# Altium footprint library Resistors_GP.PcbLib: 194 footprints (part 12 of 13)
Each footprint in its own frame and in the unit in brackets; x right, y up, seen from the top. Pads: shape width x height; smd on the part's side, far side on the other; paste and mask are expansions set on the pad; w line width, h text height; cw(c..) or ccw(c..) is an arc to the next point about the centre after c.
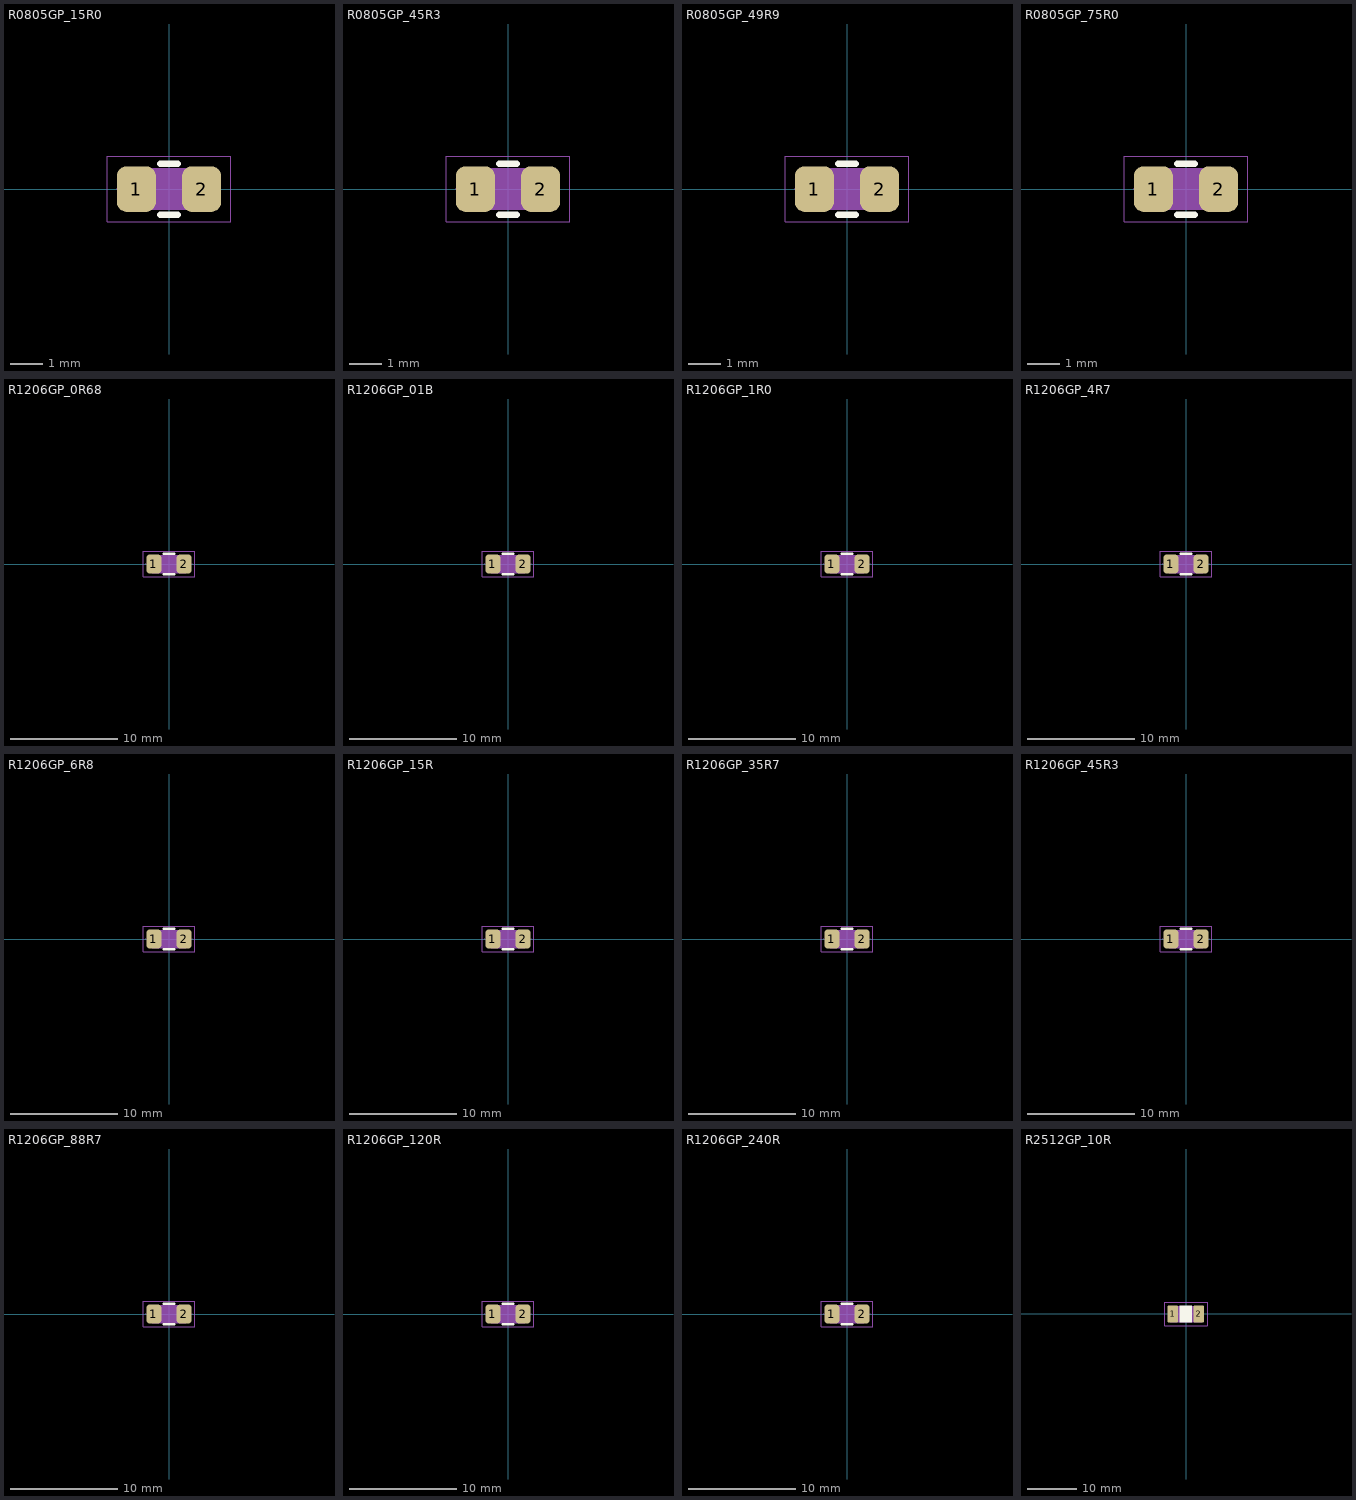
[diagram p11: the footprints below, top view; thin cyan lines are the x and y axes]

## R0805GP_15R0 [mm] "Resistor 0805"
height 0.45
pads (2):
  rrect50% 1.2x1.4 smd mask+0.05: 1(-1,-0.005) 2(1,-0.005)
Top Overlay:
  lines w0.2: -0.275,0.775 0.275,0.775 ; -0.275,-0.785 0.275,-0.785
Top Courtyard:
  lines w0.025: -1.9,-1 1.9,-1 1.9,1 -1.9,1 -1.9,-1
Top Assembly:
  lines w0.01: -1.59,-0.025 -1.59,0.025 ; 1.59,-0.025 1.59,0.025
  lines w0.05: -0.698,-0.62 0.698,-0.62 ; -0.698,0.62 0.698,0.62 ; -0.65,-0.62 -0.65,-0.46 ; -0.65,0.46 -0.65,0.62 ; -0.6,-0.62 -0.6,0.62 ; -0.55,-0.62 -0.55,0.62 ; -0.5,-0.62 -0.5,0.62 ; -0.45,-0.62 -0.45,0.62 ; -0.4,-0.62 -0.4,0.62 ; -0.35,-0.62 -0.35,0.62 ; -0.3,-0.62 -0.3,0.62 ; -0.25,-0.62 -0.25,0.62 ; -0.2,-0.62 -0.2,0.62 ; -0.15,-0.62 -0.15,0.62 ; -0.1,-0.62 -0.1,0.62 ; -0.05,-0.62 -0.05,0.62 ; 0,-0.62 0,0.62 ; 0.05,-0.62 0.05,0.62 ; 0.1,-0.62 0.1,0.62 ; 0.15,-0.62 0.15,0.62 ; 0.2,-0.62 0.2,0.62 ; 0.25,-0.62 0.25,0.62 ; 0.3,-0.62 0.3,0.62 ; 0.35,-0.62 0.35,0.62 ; 0.4,-0.62 0.4,0.62 ; 0.45,-0.62 0.45,0.62 ; 0.5,-0.62 0.5,0.62 ; 0.55,-0.62 0.55,0.62 ; 0.6,-0.62 0.6,0.62 ; 0.65,-0.62 0.65,-0.46 ; 0.65,0.46 0.65,0.62 ; -1,-0.625 -1,0.625 -0.7,0.625 cw(c-2.603,0) -0.7,-0.625 -1,-0.625 ; 0.7,-0.625 cw(c2.603,0) 0.7,0.625 1,0.625 1,-0.625 0.7,-0.625
  text ".Designator" at -1.801,0.819 h0.8
3D body "R0805_BLACK_15R0.x_t": height 0.45, standoff 0, extent -1,-0.625 1,0.625

## R0805GP_45R3 [mm] "Resistor 0805"
height 0.45
pads (2):
  rrect50% 1.2x1.4 smd mask+0.05: 1(-1,-0.005) 2(1,-0.005)
Top Overlay:
  lines w0.2: -0.275,0.775 0.275,0.775 ; -0.275,-0.785 0.275,-0.785
Top Courtyard:
  lines w0.025: -1.9,-1 -1.9,1 1.9,1 1.9,-1 -1.9,-1
Top Assembly:
  lines w0.01: -1.59,-0.025 -1.59,0.025 ; 1.59,-0.025 1.59,0.025
  lines w0.05: -0.698,-0.62 0.698,-0.62 ; -0.698,0.62 0.698,0.62 ; -0.65,-0.62 -0.65,-0.46 ; -0.65,0.46 -0.65,0.62 ; -0.6,-0.62 -0.6,0.62 ; -0.55,-0.62 -0.55,0.62 ; -0.5,-0.62 -0.5,0.62 ; -0.45,-0.62 -0.45,0.62 ; -0.4,-0.62 -0.4,0.62 ; -0.35,-0.62 -0.35,0.62 ; -0.3,-0.62 -0.3,0.62 ; -0.25,-0.62 -0.25,0.62 ; -0.2,-0.62 -0.2,0.62 ; -0.15,-0.62 -0.15,0.62 ; -0.1,-0.62 -0.1,0.62 ; -0.05,-0.62 -0.05,0.62 ; 0,-0.62 0,0.62 ; 0.05,-0.62 0.05,0.62 ; 0.1,-0.62 0.1,0.62 ; 0.15,-0.62 0.15,0.62 ; 0.2,-0.62 0.2,0.62 ; 0.25,-0.62 0.25,0.62 ; 0.3,-0.62 0.3,0.62 ; 0.35,-0.62 0.35,0.62 ; 0.4,-0.62 0.4,0.62 ; 0.45,-0.62 0.45,0.62 ; 0.5,-0.62 0.5,0.62 ; 0.55,-0.62 0.55,0.62 ; 0.6,-0.62 0.6,0.62 ; 0.65,-0.62 0.65,-0.46 ; 0.65,0.46 0.65,0.62 ; -1,-0.625 -1,0.625 -0.7,0.625 cw(c-2.603,0) -0.7,-0.625 -1,-0.625 ; 0.7,-0.625 cw(c2.603,0) 0.7,0.625 1,0.625 1,-0.625 0.7,-0.625
  text ".Designator" at -1.801,0.819 h0.8
3D body "R0805_BLACK_45R3.x_t": height 0.45, standoff 0, extent -1,-0.625 1,0.625

## R0805GP_49R9 [mm] "Resistor 0805"
height 0.45
pads (2):
  rrect50% 1.2x1.4 smd mask+0.05: 1(-1,-0.005) 2(1,-0.005)
Top Overlay:
  lines w0.2: -0.275,0.775 0.275,0.775 ; -0.275,-0.785 0.275,-0.785
Top Courtyard:
  lines w0.025: -1.9,-1 1.9,-1 1.9,1 -1.9,1 -1.9,-1
Top Assembly:
  lines w0.01: -1.59,-0.025 -1.59,0.025 ; 1.59,-0.025 1.59,0.025
  lines w0.05: -0.698,-0.62 0.698,-0.62 ; -0.698,0.62 0.698,0.62 ; -0.65,-0.62 -0.65,-0.46 ; -0.65,0.46 -0.65,0.62 ; -0.6,-0.62 -0.6,0.62 ; -0.55,-0.62 -0.55,0.62 ; -0.5,-0.62 -0.5,0.62 ; -0.45,-0.62 -0.45,0.62 ; -0.4,-0.62 -0.4,0.62 ; -0.35,-0.62 -0.35,0.62 ; -0.3,-0.62 -0.3,0.62 ; -0.25,-0.62 -0.25,0.62 ; -0.2,-0.62 -0.2,0.62 ; -0.15,-0.62 -0.15,0.62 ; -0.1,-0.62 -0.1,0.62 ; -0.05,-0.62 -0.05,0.62 ; 0,-0.62 0,0.62 ; 0.05,-0.62 0.05,0.62 ; 0.1,-0.62 0.1,0.62 ; 0.15,-0.62 0.15,0.62 ; 0.2,-0.62 0.2,0.62 ; 0.25,-0.62 0.25,0.62 ; 0.3,-0.62 0.3,0.62 ; 0.35,-0.62 0.35,0.62 ; 0.4,-0.62 0.4,0.62 ; 0.45,-0.62 0.45,0.62 ; 0.5,-0.62 0.5,0.62 ; 0.55,-0.62 0.55,0.62 ; 0.6,-0.62 0.6,0.62 ; 0.65,-0.62 0.65,-0.46 ; 0.65,0.46 0.65,0.62 ; -1,-0.625 -0.7,-0.625 ccw(c-2.603,0) -0.7,0.625 -1,0.625 -1,-0.625 ; 0.7,-0.625 cw(c2.603,0) 0.7,0.625 1,0.625 1,-0.625 0.7,-0.625
  text ".Designator" at -1.801,0.819 h0.8
3D body "R0805_BLACK_49R9.x_t": height 0.45, standoff 0, extent -1,-0.625 1,0.625

## R0805GP_75R0 [mm] "Resistor 0805"
height 0.45
pads (2):
  rrect50% 1.2x1.4 smd mask+0.05: 1(-1,-0.005) 2(1,-0.005)
Top Overlay:
  lines w0.2: -0.275,0.775 0.275,0.775 ; -0.275,-0.785 0.275,-0.785
Top Courtyard:
  lines w0.025: -1.9,-1 -1.9,1 1.9,1 1.9,-1 -1.9,-1
Top Assembly:
  lines w0.01: -1.59,-0.025 -1.59,0.025 ; 1.59,-0.025 1.59,0.025
  lines w0.05: -0.698,-0.62 0.698,-0.62 ; -0.698,0.62 0.698,0.62 ; -0.65,-0.62 -0.65,-0.46 ; -0.65,0.46 -0.65,0.62 ; -0.6,-0.62 -0.6,0.62 ; -0.55,-0.62 -0.55,0.62 ; -0.5,-0.62 -0.5,0.62 ; -0.45,-0.62 -0.45,0.62 ; -0.4,-0.62 -0.4,0.62 ; -0.35,-0.62 -0.35,0.62 ; -0.3,-0.62 -0.3,0.62 ; -0.25,-0.62 -0.25,0.62 ; -0.2,-0.62 -0.2,0.62 ; -0.15,-0.62 -0.15,0.62 ; -0.1,-0.62 -0.1,0.62 ; -0.05,-0.62 -0.05,0.62 ; 0,-0.62 0,0.62 ; 0.05,-0.62 0.05,0.62 ; 0.1,-0.62 0.1,0.62 ; 0.15,-0.62 0.15,0.62 ; 0.2,-0.62 0.2,0.62 ; 0.25,-0.62 0.25,0.62 ; 0.3,-0.62 0.3,0.62 ; 0.35,-0.62 0.35,0.62 ; 0.4,-0.62 0.4,0.62 ; 0.45,-0.62 0.45,0.62 ; 0.5,-0.62 0.5,0.62 ; 0.55,-0.62 0.55,0.62 ; 0.6,-0.62 0.6,0.62 ; 0.65,-0.62 0.65,-0.46 ; 0.65,0.46 0.65,0.62 ; -1,-0.625 -0.7,-0.625 ccw(c-2.603,0) -0.7,0.625 -1,0.625 -1,-0.625 ; 0.7,-0.625 cw(c2.603,0) 0.7,0.625 1,0.625 1,-0.625 0.7,-0.625
  text ".Designator" at -1.801,0.819 h0.8
3D body "R0805_BLACK_75R0.x_t": height 0.45, standoff 0, extent -1,-0.625 1,0.625

## R1206GP_0R68 [mm] "Resistor 1206"
height 0.55
pads (2):
  rrect50% 1.4x1.8 smd mask+0.05: 1(-1.4,0) 2(1.4,0)
Top Overlay:
  lines w0.2: -0.5,-0.95 0.5,-0.95 ; -0.5,0.95 0.5,0.95
Top Courtyard:
  lines w0.025: -2.4,-1.2 2.4,-1.2 2.4,1.2 -2.4,1.2 -2.4,-1.2
Top Assembly:
  lines w0.01: -2.14,-0.025 -2.14,0.025 ; 2.14,-0.025 2.14,0.025
  lines w0.05: -1.149,-0.795 1.149,-0.795 ; -1.149,0.795 1.149,0.795 ; -1.143,-0.745 1.143,-0.745 ; -1.143,0.745 1.143,0.745 ; -1.1,-0.745 -1.1,-0.045 ; -1.1,0.045 -1.1,0.745 ; -1.05,-0.745 -1.05,0.745 ; -1,-0.745 -1,0.745 ; -0.95,-0.745 -0.95,0.745 ; -0.9,-0.745 -0.9,0.745 ; -0.85,-0.745 -0.85,0.745 ; -0.8,-0.745 -0.8,0.745 ; -0.75,-0.745 -0.75,0.745 ; -0.7,-0.745 -0.7,0.745 ; -0.65,-0.745 -0.65,0.745 ; -0.6,-0.745 -0.6,0.745 ; -0.55,-0.745 -0.55,0.745 ; -0.5,-0.745 -0.5,0.745 ; -0.45,-0.745 -0.45,0.745 ; -0.4,-0.745 -0.4,0.745 ; -0.35,-0.745 -0.35,0.745 ; -0.3,-0.745 -0.3,0.745 ; -0.25,-0.745 -0.25,0.745 ; -0.2,-0.745 -0.2,0.745 ; -0.15,-0.745 -0.15,0.745 ; -0.1,-0.745 -0.1,0.745 ; -0.05,-0.745 -0.05,0.745 ; 0,-0.745 0,0.745 ; 0.05,-0.745 0.05,0.745 ; 0.1,-0.745 0.1,0.745 ; 0.15,-0.745 0.15,0.745 ; 0.2,-0.745 0.2,0.745 ; 0.25,-0.745 0.25,0.745 ; 0.3,-0.745 0.3,0.745 ; 0.35,-0.745 0.35,0.745 ; 0.4,-0.745 0.4,0.745 ; 0.45,-0.745 0.45,0.745 ; 0.5,-0.745 0.5,0.745 ; 0.55,-0.745 0.55,0.745 ; 0.6,-0.745 0.6,0.745 ; 0.65,-0.745 0.65,0.745 ; 0.7,-0.745 0.7,0.745 ; 0.75,-0.745 0.75,0.745 ; 0.8,-0.745 0.8,0.745 ; 0.85,-0.745 0.85,0.745 ; 0.9,-0.745 0.9,0.745 ; 0.95,-0.745 0.95,0.745 ; 1,-0.745 1,0.745 ; 1.05,-0.745 1.05,0.745 ; 1.1,-0.745 1.1,-0.045 ; 1.1,0.045 1.1,0.745 ; -1.55,-0.8 -1.55,0.8 -1.15,0.8 cw(c-7.525,0) -1.15,-0.8 -1.55,-0.8 ; 1.15,-0.8 cw(c7.525,0) 1.15,0.8 1.55,0.8 1.55,-0.8 1.15,-0.8
  text ".Designator" at -2.252,1.524 h1
3D body "R1206_BLACK_0R68.x_t": height 0.55, standoff 0, extent -1.55,-0.8 1.55,0.8

## R1206GP_01B [mm] "Resistor 1206"
height 0.55
pads (2):
  rrect50% 1.4x1.8 smd mask+0.05: 1(-1.4,0) 2(1.4,0)
Top Overlay:
  lines w0.2: -0.5,-0.95 0.5,-0.95 ; -0.5,0.95 0.5,0.95
Top Courtyard:
  lines w0.025: -2.4,-1.2 -2.4,1.2 2.4,1.2 2.4,-1.2 -2.4,-1.2
Top Assembly:
  lines w0.01: -2.14,-0.025 -2.14,0.025 ; 2.14,-0.025 2.14,0.025
  lines w0.05: -1.149,-0.795 1.149,-0.795 ; -1.149,0.795 1.149,0.795 ; -1.143,-0.745 1.143,-0.745 ; -1.143,0.745 1.143,0.745 ; -1.1,-0.745 -1.1,-0.045 ; -1.1,0.045 -1.1,0.745 ; -1.05,-0.745 -1.05,0.745 ; -1,-0.745 -1,0.745 ; -0.95,-0.745 -0.95,0.745 ; -0.9,-0.745 -0.9,0.745 ; -0.85,-0.745 -0.85,0.745 ; -0.8,-0.745 -0.8,0.745 ; -0.75,-0.745 -0.75,0.745 ; -0.7,-0.745 -0.7,0.745 ; -0.65,-0.745 -0.65,0.745 ; -0.6,-0.745 -0.6,0.745 ; -0.55,-0.745 -0.55,0.745 ; -0.5,-0.745 -0.5,0.745 ; -0.45,-0.745 -0.45,0.745 ; -0.4,-0.745 -0.4,0.745 ; -0.35,-0.745 -0.35,0.745 ; -0.3,-0.745 -0.3,0.745 ; -0.25,-0.745 -0.25,0.745 ; -0.2,-0.745 -0.2,0.745 ; -0.15,-0.745 -0.15,0.745 ; -0.1,-0.745 -0.1,0.745 ; -0.05,-0.745 -0.05,0.745 ; 0,-0.745 0,0.745 ; 0.05,-0.745 0.05,0.745 ; 0.1,-0.745 0.1,0.745 ; 0.15,-0.745 0.15,0.745 ; 0.2,-0.745 0.2,0.745 ; 0.25,-0.745 0.25,0.745 ; 0.3,-0.745 0.3,0.745 ; 0.35,-0.745 0.35,0.745 ; 0.4,-0.745 0.4,0.745 ; 0.45,-0.745 0.45,0.745 ; 0.5,-0.745 0.5,0.745 ; 0.55,-0.745 0.55,0.745 ; 0.6,-0.745 0.6,0.745 ; 0.65,-0.745 0.65,0.745 ; 0.7,-0.745 0.7,0.745 ; 0.75,-0.745 0.75,0.745 ; 0.8,-0.745 0.8,0.745 ; 0.85,-0.745 0.85,0.745 ; 0.9,-0.745 0.9,0.745 ; 0.95,-0.745 0.95,0.745 ; 1,-0.745 1,0.745 ; 1.05,-0.745 1.05,0.745 ; 1.1,-0.745 1.1,-0.045 ; 1.1,0.045 1.1,0.745 ; -1.55,-0.8 -1.15,-0.8 ccw(c-7.525,0) -1.15,0.8 -1.55,0.8 -1.55,-0.8 ; 1.15,-0.8 cw(c7.525,0) 1.15,0.8 1.55,0.8 1.55,-0.8 1.15,-0.8
  text ".Designator" at -2.252,1.524 h1
3D body "R1206_BLACK_01B.x_t": height 0.55, standoff 0, extent -1.55,-0.8 1.55,0.8

## R1206GP_1R0 [mm] "Resistor 1206"
height 0.55
pads (2):
  rrect50% 1.4x1.8 smd mask+0.05: 1(-1.4,0) 2(1.4,0)
Top Overlay:
  lines w0.2: -0.5,-0.95 0.5,-0.95 ; -0.5,0.95 0.5,0.95
Top Courtyard:
  lines w0.025: -2.4,-1.2 2.4,-1.2 2.4,1.2 -2.4,1.2 -2.4,-1.2
Top Assembly:
  lines w0.01: -2.14,-0.025 -2.14,0.025 ; 2.14,-0.025 2.14,0.025
  lines w0.05: -1.149,-0.795 1.149,-0.795 ; -1.149,0.795 1.149,0.795 ; -1.143,-0.745 1.143,-0.745 ; -1.143,0.745 1.143,0.745 ; -1.1,-0.745 -1.1,-0.045 ; -1.1,0.045 -1.1,0.745 ; -1.05,-0.745 -1.05,0.745 ; -1,-0.745 -1,0.745 ; -0.95,-0.745 -0.95,0.745 ; -0.9,-0.745 -0.9,0.745 ; -0.85,-0.745 -0.85,0.745 ; -0.8,-0.745 -0.8,0.745 ; -0.75,-0.745 -0.75,0.745 ; -0.7,-0.745 -0.7,0.745 ; -0.65,-0.745 -0.65,0.745 ; -0.6,-0.745 -0.6,0.745 ; -0.55,-0.745 -0.55,0.745 ; -0.5,-0.745 -0.5,0.745 ; -0.45,-0.745 -0.45,0.745 ; -0.4,-0.745 -0.4,0.745 ; -0.35,-0.745 -0.35,0.745 ; -0.3,-0.745 -0.3,0.745 ; -0.25,-0.745 -0.25,0.745 ; -0.2,-0.745 -0.2,0.745 ; -0.15,-0.745 -0.15,0.745 ; -0.1,-0.745 -0.1,0.745 ; -0.05,-0.745 -0.05,0.745 ; 0,-0.745 0,0.745 ; 0.05,-0.745 0.05,0.745 ; 0.1,-0.745 0.1,0.745 ; 0.15,-0.745 0.15,0.745 ; 0.2,-0.745 0.2,0.745 ; 0.25,-0.745 0.25,0.745 ; 0.3,-0.745 0.3,0.745 ; 0.35,-0.745 0.35,0.745 ; 0.4,-0.745 0.4,0.745 ; 0.45,-0.745 0.45,0.745 ; 0.5,-0.745 0.5,0.745 ; 0.55,-0.745 0.55,0.745 ; 0.6,-0.745 0.6,0.745 ; 0.65,-0.745 0.65,0.745 ; 0.7,-0.745 0.7,0.745 ; 0.75,-0.745 0.75,0.745 ; 0.8,-0.745 0.8,0.745 ; 0.85,-0.745 0.85,0.745 ; 0.9,-0.745 0.9,0.745 ; 0.95,-0.745 0.95,0.745 ; 1,-0.745 1,0.745 ; 1.05,-0.745 1.05,0.745 ; 1.1,-0.745 1.1,-0.045 ; 1.1,0.045 1.1,0.745 ; -1.55,-0.8 -1.55,0.8 -1.15,0.8 cw(c-7.525,0) -1.15,-0.8 -1.55,-0.8 ; 1.15,-0.8 cw(c7.525,0) 1.15,0.8 1.55,0.8 1.55,-0.8 1.15,-0.8
  text ".Designator" at -2.252,1.524 h1
3D body "R1206_BLACK_1R0.x_t": height 0.55, standoff 0, extent -1.55,-0.8 1.55,0.8

## R1206GP_4R7 [mm] "Resistor 1206"
height 0.55
pads (2):
  rrect50% 1.4x1.8 smd mask+0.05: 1(-1.4,0) 2(1.4,0)
Top Overlay:
  lines w0.2: -0.5,-0.95 0.5,-0.95 ; -0.5,0.95 0.5,0.95
Top Courtyard:
  lines w0.025: -2.4,-1.2 2.4,-1.2 2.4,1.2 -2.4,1.2 -2.4,-1.2
Top Assembly:
  lines w0.01: -2.14,-0.025 -2.14,0.025 ; 2.14,-0.025 2.14,0.025
  lines w0.05: -1.149,-0.795 1.149,-0.795 ; -1.149,0.795 1.149,0.795 ; -1.143,-0.745 1.143,-0.745 ; -1.143,0.745 1.143,0.745 ; -1.1,-0.745 -1.1,-0.045 ; -1.1,0.045 -1.1,0.745 ; -1.05,-0.745 -1.05,0.745 ; -1,-0.745 -1,0.745 ; -0.95,-0.745 -0.95,0.745 ; -0.9,-0.745 -0.9,0.745 ; -0.85,-0.745 -0.85,0.745 ; -0.8,-0.745 -0.8,0.745 ; -0.75,-0.745 -0.75,0.745 ; -0.7,-0.745 -0.7,0.745 ; -0.65,-0.745 -0.65,0.745 ; -0.6,-0.745 -0.6,0.745 ; -0.55,-0.745 -0.55,0.745 ; -0.5,-0.745 -0.5,0.745 ; -0.45,-0.745 -0.45,0.745 ; -0.4,-0.745 -0.4,0.745 ; -0.35,-0.745 -0.35,0.745 ; -0.3,-0.745 -0.3,0.745 ; -0.25,-0.745 -0.25,0.745 ; -0.2,-0.745 -0.2,0.745 ; -0.15,-0.745 -0.15,0.745 ; -0.1,-0.745 -0.1,0.745 ; -0.05,-0.745 -0.05,0.745 ; 0,-0.745 0,0.745 ; 0.05,-0.745 0.05,0.745 ; 0.1,-0.745 0.1,0.745 ; 0.15,-0.745 0.15,0.745 ; 0.2,-0.745 0.2,0.745 ; 0.25,-0.745 0.25,0.745 ; 0.3,-0.745 0.3,0.745 ; 0.35,-0.745 0.35,0.745 ; 0.4,-0.745 0.4,0.745 ; 0.45,-0.745 0.45,0.745 ; 0.5,-0.745 0.5,0.745 ; 0.55,-0.745 0.55,0.745 ; 0.6,-0.745 0.6,0.745 ; 0.65,-0.745 0.65,0.745 ; 0.7,-0.745 0.7,0.745 ; 0.75,-0.745 0.75,0.745 ; 0.8,-0.745 0.8,0.745 ; 0.85,-0.745 0.85,0.745 ; 0.9,-0.745 0.9,0.745 ; 0.95,-0.745 0.95,0.745 ; 1,-0.745 1,0.745 ; 1.05,-0.745 1.05,0.745 ; 1.1,-0.745 1.1,-0.045 ; 1.1,0.045 1.1,0.745 ; -1.55,-0.8 -1.55,0.8 -1.15,0.8 cw(c-7.525,0) -1.15,-0.8 -1.55,-0.8 ; 1.15,-0.8 cw(c7.525,0) 1.15,0.8 1.55,0.8 1.55,-0.8 1.15,-0.8
  text ".Designator" at -2.252,1.524 h1
3D body "R1206_BLACK_4R7.x_t": height 0.55, standoff 0, extent -1.55,-0.8 1.55,0.8

## R1206GP_6R8 [mm] "Resistor 1206"
height 0.55
pads (2):
  rrect50% 1.4x1.8 smd mask+0.05: 1(-1.4,0) 2(1.4,0)
Top Overlay:
  lines w0.2: -0.5,-0.95 0.5,-0.95 ; -0.5,0.95 0.5,0.95
Top Courtyard:
  lines w0.025: -2.4,-1.2 -2.4,1.2 2.4,1.2 2.4,-1.2 -2.4,-1.2
Top Assembly:
  lines w0.01: -2.14,-0.025 -2.14,0.025 ; 2.14,-0.025 2.14,0.025
  lines w0.05: -1.149,-0.795 1.149,-0.795 ; -1.149,0.795 1.149,0.795 ; -1.143,-0.745 1.143,-0.745 ; -1.143,0.745 1.143,0.745 ; -1.1,-0.745 -1.1,-0.045 ; -1.1,0.045 -1.1,0.745 ; -1.05,-0.745 -1.05,0.745 ; -1,-0.745 -1,0.745 ; -0.95,-0.745 -0.95,0.745 ; -0.9,-0.745 -0.9,0.745 ; -0.85,-0.745 -0.85,0.745 ; -0.8,-0.745 -0.8,0.745 ; -0.75,-0.745 -0.75,0.745 ; -0.7,-0.745 -0.7,0.745 ; -0.65,-0.745 -0.65,0.745 ; -0.6,-0.745 -0.6,0.745 ; -0.55,-0.745 -0.55,0.745 ; -0.5,-0.745 -0.5,0.745 ; -0.45,-0.745 -0.45,0.745 ; -0.4,-0.745 -0.4,0.745 ; -0.35,-0.745 -0.35,0.745 ; -0.3,-0.745 -0.3,0.745 ; -0.25,-0.745 -0.25,0.745 ; -0.2,-0.745 -0.2,0.745 ; -0.15,-0.745 -0.15,0.745 ; -0.1,-0.745 -0.1,0.745 ; -0.05,-0.745 -0.05,0.745 ; 0,-0.745 0,0.745 ; 0.05,-0.745 0.05,0.745 ; 0.1,-0.745 0.1,0.745 ; 0.15,-0.745 0.15,0.745 ; 0.2,-0.745 0.2,0.745 ; 0.25,-0.745 0.25,0.745 ; 0.3,-0.745 0.3,0.745 ; 0.35,-0.745 0.35,0.745 ; 0.4,-0.745 0.4,0.745 ; 0.45,-0.745 0.45,0.745 ; 0.5,-0.745 0.5,0.745 ; 0.55,-0.745 0.55,0.745 ; 0.6,-0.745 0.6,0.745 ; 0.65,-0.745 0.65,0.745 ; 0.7,-0.745 0.7,0.745 ; 0.75,-0.745 0.75,0.745 ; 0.8,-0.745 0.8,0.745 ; 0.85,-0.745 0.85,0.745 ; 0.9,-0.745 0.9,0.745 ; 0.95,-0.745 0.95,0.745 ; 1,-0.745 1,0.745 ; 1.05,-0.745 1.05,0.745 ; 1.1,-0.745 1.1,-0.045 ; 1.1,0.045 1.1,0.745 ; -1.55,-0.8 -1.15,-0.8 ccw(c-7.525,0) -1.15,0.8 -1.55,0.8 -1.55,-0.8 ; 1.15,-0.8 cw(c7.525,0) 1.15,0.8 1.55,0.8 1.55,-0.8 1.15,-0.8
  text ".Designator" at -2.252,1.524 h1
3D body "R1206_BLACK_6R8.x_t": height 0.55, standoff 0, extent -1.55,-0.8 1.55,0.8

## R1206GP_15R [mm] "Resistor 1206"
height 0.55
pads (2):
  rrect50% 1.4x1.8 smd mask+0.05: 1(-1.4,0) 2(1.4,0)
Top Overlay:
  lines w0.2: -0.5,-0.95 0.5,-0.95 ; -0.5,0.95 0.5,0.95
Top Courtyard:
  lines w0.025: -2.4,-1.2 -2.4,1.2 2.4,1.2 2.4,-1.2 -2.4,-1.2
Top Assembly:
  lines w0.01: -2.14,-0.025 -2.14,0.025 ; 2.14,-0.025 2.14,0.025
  lines w0.05: -1.149,-0.795 1.149,-0.795 ; -1.149,0.795 1.149,0.795 ; -1.143,-0.745 1.143,-0.745 ; -1.143,0.745 1.143,0.745 ; -1.1,-0.745 -1.1,-0.045 ; -1.1,0.045 -1.1,0.745 ; -1.05,-0.745 -1.05,0.745 ; -1,-0.745 -1,0.745 ; -0.95,-0.745 -0.95,0.745 ; -0.9,-0.745 -0.9,0.745 ; -0.85,-0.745 -0.85,0.745 ; -0.8,-0.745 -0.8,0.745 ; -0.75,-0.745 -0.75,0.745 ; -0.7,-0.745 -0.7,0.745 ; -0.65,-0.745 -0.65,0.745 ; -0.6,-0.745 -0.6,0.745 ; -0.55,-0.745 -0.55,0.745 ; -0.5,-0.745 -0.5,0.745 ; -0.45,-0.745 -0.45,0.745 ; -0.4,-0.745 -0.4,0.745 ; -0.35,-0.745 -0.35,0.745 ; -0.3,-0.745 -0.3,0.745 ; -0.25,-0.745 -0.25,0.745 ; -0.2,-0.745 -0.2,0.745 ; -0.15,-0.745 -0.15,0.745 ; -0.1,-0.745 -0.1,0.745 ; -0.05,-0.745 -0.05,0.745 ; 0,-0.745 0,0.745 ; 0.05,-0.745 0.05,0.745 ; 0.1,-0.745 0.1,0.745 ; 0.15,-0.745 0.15,0.745 ; 0.2,-0.745 0.2,0.745 ; 0.25,-0.745 0.25,0.745 ; 0.3,-0.745 0.3,0.745 ; 0.35,-0.745 0.35,0.745 ; 0.4,-0.745 0.4,0.745 ; 0.45,-0.745 0.45,0.745 ; 0.5,-0.745 0.5,0.745 ; 0.55,-0.745 0.55,0.745 ; 0.6,-0.745 0.6,0.745 ; 0.65,-0.745 0.65,0.745 ; 0.7,-0.745 0.7,0.745 ; 0.75,-0.745 0.75,0.745 ; 0.8,-0.745 0.8,0.745 ; 0.85,-0.745 0.85,0.745 ; 0.9,-0.745 0.9,0.745 ; 0.95,-0.745 0.95,0.745 ; 1,-0.745 1,0.745 ; 1.05,-0.745 1.05,0.745 ; 1.1,-0.745 1.1,-0.045 ; 1.1,0.045 1.1,0.745 ; -1.55,-0.8 -1.15,-0.8 ccw(c-7.525,0) -1.15,0.8 -1.55,0.8 -1.55,-0.8 ; 1.15,-0.8 cw(c7.525,0) 1.15,0.8 1.55,0.8 1.55,-0.8 1.15,-0.8
  text ".Designator" at -2.252,1.524 h1
3D body "R1206_BLACK_15R.x_t": height 0.55, standoff 0, extent -1.55,-0.8 1.55,0.8

## R1206GP_35R7 [mm] "Resistor 1206"
height 0.55
pads (2):
  rrect50% 1.4x1.8 smd mask+0.05: 1(-1.4,0) 2(1.4,0)
Top Overlay:
  lines w0.2: -0.5,-0.95 0.5,-0.95 ; -0.5,0.95 0.5,0.95
Top Courtyard:
  lines w0.025: -2.4,-1.2 -2.4,1.2 2.4,1.2 2.4,-1.2 -2.4,-1.2
Top Assembly:
  lines w0.01: -2.14,-0.025 -2.14,0.025 ; 2.14,-0.025 2.14,0.025
  lines w0.05: -1.149,-0.795 1.149,-0.795 ; -1.149,0.795 1.149,0.795 ; -1.143,-0.745 1.143,-0.745 ; -1.143,0.745 1.143,0.745 ; -1.1,-0.745 -1.1,-0.045 ; -1.1,0.045 -1.1,0.745 ; -1.05,-0.745 -1.05,0.745 ; -1,-0.745 -1,0.745 ; -0.95,-0.745 -0.95,0.745 ; -0.9,-0.745 -0.9,0.745 ; -0.85,-0.745 -0.85,0.745 ; -0.8,-0.745 -0.8,0.745 ; -0.75,-0.745 -0.75,0.745 ; -0.7,-0.745 -0.7,0.745 ; -0.65,-0.745 -0.65,0.745 ; -0.6,-0.745 -0.6,0.745 ; -0.55,-0.745 -0.55,0.745 ; -0.5,-0.745 -0.5,0.745 ; -0.45,-0.745 -0.45,0.745 ; -0.4,-0.745 -0.4,0.745 ; -0.35,-0.745 -0.35,0.745 ; -0.3,-0.745 -0.3,0.745 ; -0.25,-0.745 -0.25,0.745 ; -0.2,-0.745 -0.2,0.745 ; -0.15,-0.745 -0.15,0.745 ; -0.1,-0.745 -0.1,0.745 ; -0.05,-0.745 -0.05,0.745 ; 0,-0.745 0,0.745 ; 0.05,-0.745 0.05,0.745 ; 0.1,-0.745 0.1,0.745 ; 0.15,-0.745 0.15,0.745 ; 0.2,-0.745 0.2,0.745 ; 0.25,-0.745 0.25,0.745 ; 0.3,-0.745 0.3,0.745 ; 0.35,-0.745 0.35,0.745 ; 0.4,-0.745 0.4,0.745 ; 0.45,-0.745 0.45,0.745 ; 0.5,-0.745 0.5,0.745 ; 0.55,-0.745 0.55,0.745 ; 0.6,-0.745 0.6,0.745 ; 0.65,-0.745 0.65,0.745 ; 0.7,-0.745 0.7,0.745 ; 0.75,-0.745 0.75,0.745 ; 0.8,-0.745 0.8,0.745 ; 0.85,-0.745 0.85,0.745 ; 0.9,-0.745 0.9,0.745 ; 0.95,-0.745 0.95,0.745 ; 1,-0.745 1,0.745 ; 1.05,-0.745 1.05,0.745 ; 1.1,-0.745 1.1,-0.045 ; 1.1,0.045 1.1,0.745 ; -1.55,-0.8 -1.15,-0.8 ccw(c-7.525,0) -1.15,0.8 -1.55,0.8 -1.55,-0.8 ; 1.15,-0.8 cw(c7.525,0) 1.15,0.8 1.55,0.8 1.55,-0.8 1.15,-0.8
  text ".Designator" at -2.252,1.524 h1
3D body "R1206_BLACK_35R7.x_t": height 0.55, standoff 0, extent -1.55,-0.8 1.55,0.8

## R1206GP_45R3 [mm] "Resistor 1206"
height 0.55
pads (2):
  rrect50% 1.4x1.8 smd mask+0.05: 1(-1.4,0) 2(1.4,0)
Top Overlay:
  lines w0.2: -0.5,-0.95 0.5,-0.95 ; -0.5,0.95 0.5,0.95
Top Courtyard:
  lines w0.025: -2.4,-1.2 2.4,-1.2 2.4,1.2 -2.4,1.2 -2.4,-1.2
Top Assembly:
  lines w0.01: -2.14,-0.025 -2.14,0.025 ; 2.14,-0.025 2.14,0.025
  lines w0.05: -1.149,-0.795 1.149,-0.795 ; -1.149,0.795 1.149,0.795 ; -1.143,-0.745 1.143,-0.745 ; -1.143,0.745 1.143,0.745 ; -1.1,-0.745 -1.1,-0.045 ; -1.1,0.045 -1.1,0.745 ; -1.05,-0.745 -1.05,0.745 ; -1,-0.745 -1,0.745 ; -0.95,-0.745 -0.95,0.745 ; -0.9,-0.745 -0.9,0.745 ; -0.85,-0.745 -0.85,0.745 ; -0.8,-0.745 -0.8,0.745 ; -0.75,-0.745 -0.75,0.745 ; -0.7,-0.745 -0.7,0.745 ; -0.65,-0.745 -0.65,0.745 ; -0.6,-0.745 -0.6,0.745 ; -0.55,-0.745 -0.55,0.745 ; -0.5,-0.745 -0.5,0.745 ; -0.45,-0.745 -0.45,0.745 ; -0.4,-0.745 -0.4,0.745 ; -0.35,-0.745 -0.35,0.745 ; -0.3,-0.745 -0.3,0.745 ; -0.25,-0.745 -0.25,0.745 ; -0.2,-0.745 -0.2,0.745 ; -0.15,-0.745 -0.15,0.745 ; -0.1,-0.745 -0.1,0.745 ; -0.05,-0.745 -0.05,0.745 ; 0,-0.745 0,0.745 ; 0.05,-0.745 0.05,0.745 ; 0.1,-0.745 0.1,0.745 ; 0.15,-0.745 0.15,0.745 ; 0.2,-0.745 0.2,0.745 ; 0.25,-0.745 0.25,0.745 ; 0.3,-0.745 0.3,0.745 ; 0.35,-0.745 0.35,0.745 ; 0.4,-0.745 0.4,0.745 ; 0.45,-0.745 0.45,0.745 ; 0.5,-0.745 0.5,0.745 ; 0.55,-0.745 0.55,0.745 ; 0.6,-0.745 0.6,0.745 ; 0.65,-0.745 0.65,0.745 ; 0.7,-0.745 0.7,0.745 ; 0.75,-0.745 0.75,0.745 ; 0.8,-0.745 0.8,0.745 ; 0.85,-0.745 0.85,0.745 ; 0.9,-0.745 0.9,0.745 ; 0.95,-0.745 0.95,0.745 ; 1,-0.745 1,0.745 ; 1.05,-0.745 1.05,0.745 ; 1.1,-0.745 1.1,-0.045 ; 1.1,0.045 1.1,0.745 ; -1.55,-0.8 -1.55,0.8 -1.15,0.8 cw(c-7.525,0) -1.15,-0.8 -1.55,-0.8 ; 1.15,-0.8 cw(c7.525,0) 1.15,0.8 1.55,0.8 1.55,-0.8 1.15,-0.8
  text ".Designator" at -2.252,1.524 h1
3D body "R1206_BLACK_45R3.x_t": height 0.55, standoff 0, extent -1.55,-0.8 1.55,0.8

## R1206GP_88R7 [mm] "Resistor 1206"
height 0.55
pads (2):
  rrect50% 1.4x1.8 smd mask+0.05: 1(-1.4,0) 2(1.4,0)
Top Overlay:
  lines w0.2: -0.5,-0.95 0.5,-0.95 ; -0.5,0.95 0.5,0.95
Top Courtyard:
  lines w0.025: -2.4,-1.2 2.4,-1.2 2.4,1.2 -2.4,1.2 -2.4,-1.2
Top Assembly:
  lines w0.01: -2.14,-0.025 -2.14,0.025 ; 2.14,-0.025 2.14,0.025
  lines w0.05: -1.149,-0.795 1.149,-0.795 ; -1.149,0.795 1.149,0.795 ; -1.143,-0.745 1.143,-0.745 ; -1.143,0.745 1.143,0.745 ; -1.1,-0.745 -1.1,-0.045 ; -1.1,0.045 -1.1,0.745 ; -1.05,-0.745 -1.05,0.745 ; -1,-0.745 -1,0.745 ; -0.95,-0.745 -0.95,0.745 ; -0.9,-0.745 -0.9,0.745 ; -0.85,-0.745 -0.85,0.745 ; -0.8,-0.745 -0.8,0.745 ; -0.75,-0.745 -0.75,0.745 ; -0.7,-0.745 -0.7,0.745 ; -0.65,-0.745 -0.65,0.745 ; -0.6,-0.745 -0.6,0.745 ; -0.55,-0.745 -0.55,0.745 ; -0.5,-0.745 -0.5,0.745 ; -0.45,-0.745 -0.45,0.745 ; -0.4,-0.745 -0.4,0.745 ; -0.35,-0.745 -0.35,0.745 ; -0.3,-0.745 -0.3,0.745 ; -0.25,-0.745 -0.25,0.745 ; -0.2,-0.745 -0.2,0.745 ; -0.15,-0.745 -0.15,0.745 ; -0.1,-0.745 -0.1,0.745 ; -0.05,-0.745 -0.05,0.745 ; 0,-0.745 0,0.745 ; 0.05,-0.745 0.05,0.745 ; 0.1,-0.745 0.1,0.745 ; 0.15,-0.745 0.15,0.745 ; 0.2,-0.745 0.2,0.745 ; 0.25,-0.745 0.25,0.745 ; 0.3,-0.745 0.3,0.745 ; 0.35,-0.745 0.35,0.745 ; 0.4,-0.745 0.4,0.745 ; 0.45,-0.745 0.45,0.745 ; 0.5,-0.745 0.5,0.745 ; 0.55,-0.745 0.55,0.745 ; 0.6,-0.745 0.6,0.745 ; 0.65,-0.745 0.65,0.745 ; 0.7,-0.745 0.7,0.745 ; 0.75,-0.745 0.75,0.745 ; 0.8,-0.745 0.8,0.745 ; 0.85,-0.745 0.85,0.745 ; 0.9,-0.745 0.9,0.745 ; 0.95,-0.745 0.95,0.745 ; 1,-0.745 1,0.745 ; 1.05,-0.745 1.05,0.745 ; 1.1,-0.745 1.1,-0.045 ; 1.1,0.045 1.1,0.745 ; -1.55,-0.8 -1.55,0.8 -1.15,0.8 cw(c-7.525,0) -1.15,-0.8 -1.55,-0.8 ; 1.15,-0.8 cw(c7.525,0) 1.15,0.8 1.55,0.8 1.55,-0.8 1.15,-0.8
  text ".Designator" at -2.252,1.524 h1
3D body "R1206_BLACK_88R7.x_t": height 0.55, standoff 0, extent -1.55,-0.8 1.55,0.8

## R1206GP_120R [mm] "Resistor 1206"
height 0.55
pads (2):
  rrect50% 1.4x1.8 smd mask+0.05: 1(-1.4,0) 2(1.4,0)
Top Overlay:
  lines w0.2: -0.5,-0.95 0.5,-0.95 ; -0.5,0.95 0.5,0.95
Top Courtyard:
  lines w0.025: -2.4,-1.2 -2.4,1.2 2.4,1.2 2.4,-1.2 -2.4,-1.2
Top Assembly:
  lines w0.01: -2.14,-0.025 -2.14,0.025 ; 2.14,-0.025 2.14,0.025
  lines w0.05: -1.149,-0.795 1.149,-0.795 ; -1.149,0.795 1.149,0.795 ; -1.143,-0.745 1.143,-0.745 ; -1.143,0.745 1.143,0.745 ; -1.1,-0.745 -1.1,-0.045 ; -1.1,0.045 -1.1,0.745 ; -1.05,-0.745 -1.05,0.745 ; -1,-0.745 -1,0.745 ; -0.95,-0.745 -0.95,0.745 ; -0.9,-0.745 -0.9,0.745 ; -0.85,-0.745 -0.85,0.745 ; -0.8,-0.745 -0.8,0.745 ; -0.75,-0.745 -0.75,0.745 ; -0.7,-0.745 -0.7,0.745 ; -0.65,-0.745 -0.65,0.745 ; -0.6,-0.745 -0.6,0.745 ; -0.55,-0.745 -0.55,0.745 ; -0.5,-0.745 -0.5,0.745 ; -0.45,-0.745 -0.45,0.745 ; -0.4,-0.745 -0.4,0.745 ; -0.35,-0.745 -0.35,0.745 ; -0.3,-0.745 -0.3,0.745 ; -0.25,-0.745 -0.25,0.745 ; -0.2,-0.745 -0.2,0.745 ; -0.15,-0.745 -0.15,0.745 ; -0.1,-0.745 -0.1,0.745 ; -0.05,-0.745 -0.05,0.745 ; 0,-0.745 0,0.745 ; 0.05,-0.745 0.05,0.745 ; 0.1,-0.745 0.1,0.745 ; 0.15,-0.745 0.15,0.745 ; 0.2,-0.745 0.2,0.745 ; 0.25,-0.745 0.25,0.745 ; 0.3,-0.745 0.3,0.745 ; 0.35,-0.745 0.35,0.745 ; 0.4,-0.745 0.4,0.745 ; 0.45,-0.745 0.45,0.745 ; 0.5,-0.745 0.5,0.745 ; 0.55,-0.745 0.55,0.745 ; 0.6,-0.745 0.6,0.745 ; 0.65,-0.745 0.65,0.745 ; 0.7,-0.745 0.7,0.745 ; 0.75,-0.745 0.75,0.745 ; 0.8,-0.745 0.8,0.745 ; 0.85,-0.745 0.85,0.745 ; 0.9,-0.745 0.9,0.745 ; 0.95,-0.745 0.95,0.745 ; 1,-0.745 1,0.745 ; 1.05,-0.745 1.05,0.745 ; 1.1,-0.745 1.1,-0.045 ; 1.1,0.045 1.1,0.745 ; -1.55,-0.8 -1.15,-0.8 ccw(c-7.525,0) -1.15,0.8 -1.55,0.8 -1.55,-0.8 ; 1.15,-0.8 cw(c7.525,0) 1.15,0.8 1.55,0.8 1.55,-0.8 1.15,-0.8
  text ".Designator" at -2.252,1.524 h1
3D body "R1206_BLACK_120R.x_t": height 0.55, standoff 0, extent -1.55,-0.8 1.55,0.8

## R1206GP_240R [mm] "Resistor 1206"
height 0.55
pads (2):
  rrect50% 1.4x1.8 smd mask+0.05: 1(-1.4,0) 2(1.4,0)
Top Overlay:
  lines w0.2: -0.5,-0.95 0.5,-0.95 ; -0.5,0.95 0.5,0.95
Top Courtyard:
  lines w0.025: -2.4,-1.2 2.4,-1.2 2.4,1.2 -2.4,1.2 -2.4,-1.2
Top Assembly:
  lines w0.01: -2.14,-0.025 -2.14,0.025 ; 2.14,-0.025 2.14,0.025
  lines w0.05: -1.149,-0.795 1.149,-0.795 ; -1.149,0.795 1.149,0.795 ; -1.143,-0.745 1.143,-0.745 ; -1.143,0.745 1.143,0.745 ; -1.1,-0.745 -1.1,-0.045 ; -1.1,0.045 -1.1,0.745 ; -1.05,-0.745 -1.05,0.745 ; -1,-0.745 -1,0.745 ; -0.95,-0.745 -0.95,0.745 ; -0.9,-0.745 -0.9,0.745 ; -0.85,-0.745 -0.85,0.745 ; -0.8,-0.745 -0.8,0.745 ; -0.75,-0.745 -0.75,0.745 ; -0.7,-0.745 -0.7,0.745 ; -0.65,-0.745 -0.65,0.745 ; -0.6,-0.745 -0.6,0.745 ; -0.55,-0.745 -0.55,0.745 ; -0.5,-0.745 -0.5,0.745 ; -0.45,-0.745 -0.45,0.745 ; -0.4,-0.745 -0.4,0.745 ; -0.35,-0.745 -0.35,0.745 ; -0.3,-0.745 -0.3,0.745 ; -0.25,-0.745 -0.25,0.745 ; -0.2,-0.745 -0.2,0.745 ; -0.15,-0.745 -0.15,0.745 ; -0.1,-0.745 -0.1,0.745 ; -0.05,-0.745 -0.05,0.745 ; 0,-0.745 0,0.745 ; 0.05,-0.745 0.05,0.745 ; 0.1,-0.745 0.1,0.745 ; 0.15,-0.745 0.15,0.745 ; 0.2,-0.745 0.2,0.745 ; 0.25,-0.745 0.25,0.745 ; 0.3,-0.745 0.3,0.745 ; 0.35,-0.745 0.35,0.745 ; 0.4,-0.745 0.4,0.745 ; 0.45,-0.745 0.45,0.745 ; 0.5,-0.745 0.5,0.745 ; 0.55,-0.745 0.55,0.745 ; 0.6,-0.745 0.6,0.745 ; 0.65,-0.745 0.65,0.745 ; 0.7,-0.745 0.7,0.745 ; 0.75,-0.745 0.75,0.745 ; 0.8,-0.745 0.8,0.745 ; 0.85,-0.745 0.85,0.745 ; 0.9,-0.745 0.9,0.745 ; 0.95,-0.745 0.95,0.745 ; 1,-0.745 1,0.745 ; 1.05,-0.745 1.05,0.745 ; 1.1,-0.745 1.1,-0.045 ; 1.1,0.045 1.1,0.745 ; -1.55,-0.8 -1.55,0.8 -1.15,0.8 cw(c-7.525,0) -1.15,-0.8 -1.55,-0.8 ; 1.15,-0.8 cw(c7.525,0) 1.15,0.8 1.55,0.8 1.55,-0.8 1.15,-0.8
  text ".Designator" at -2.252,1.524 h1
3D body "R1206_BLACK_240R.x_t": height 0.55, standoff 0, extent -1.55,-0.8 1.55,0.8

## R2512GP_10R [mm] "Resistor 2512"
height 0.55
pads (2):
  rrect20% 2.1x3.4 smd paste-3 mask+0.05: 1(-2.7,0) 2(2.6,0)
Top Overlay:
  rectangle: -1.35,-1.7 1.25,1.7
Top Paste:
  rectangle: 1.8,0.65 2.5,1.35
  region: 3.45,1.35 2.75,1.35 2.75,0.65 3.45,0.65
  rectangle: 1.8,-0.35 2.5,0.35
  region: 3.45,0.35 2.75,0.35 2.75,-0.35 3.45,-0.35
  rectangle: 1.8,-1.3 2.5,-0.6
  region: 3.45,-0.6 2.75,-0.6 2.75,-1.3 3.45,-1.3
  rectangle: -3.5,0.65 -2.8,1.35
  region: -1.85,1.35 -2.55,1.35 -2.55,0.65 -1.85,0.65
  rectangle: -3.5,-0.35 -2.8,0.35
  region: -1.85,0.35 -2.55,0.35 -2.55,-0.35 -1.85,-0.35
  rectangle: -3.5,-1.3 -2.8,-0.6
  region: -1.85,-0.6 -2.55,-0.6 -2.55,-1.3 -1.85,-1.3
Top Courtyard:
  lines w0.025: -4.3,-2.4 4.3,-2.4 4.3,2.4 -4.3,2.4 -4.3,-2.4
Top Assembly:
  lines w0.05: -2.414,-1.585 2.414,-1.585 ; -2.414,1.585 2.414,1.585 ; -2.384,-1.435 2.399,-1.435 ; -2.384,1.435 2.399,1.435 ; -2.35,-1.435 -2.35,-0.835 ; -2.35,0.835 -2.35,1.435 ; -2.3,-1.435 -2.3,1.435 ; -2.25,-1.435 -2.25,1.435 ; -2.2,-1.435 -2.2,1.435 ; -2.15,-1.435 -2.15,1.435 ; -2.1,-1.435 -2.1,1.435 ; -2.05,-1.435 -2.05,1.435 ; -2,-1.435 -2,1.435 ; -1.95,-1.435 -1.95,1.435 ; -1.9,-1.435 -1.9,1.435 ; -1.85,-1.435 -1.85,1.435 ; -1.8,-1.435 -1.8,1.435 ; -1.75,-1.435 -1.75,1.435 ; -1.7,-1.435 -1.7,1.435 ; -1.65,-1.435 -1.65,1.435 ; -1.6,-1.435 -1.6,1.435 ; -1.55,-1.435 -1.55,1.435 ; -1.5,-1.435 -1.5,1.435 ; -1.45,-1.435 -1.45,1.435 ; -1.4,-1.435 -1.4,1.435 ; -1.35,-1.435 -1.35,1.435 ; -1.3,-1.435 -1.3,1.435 ; -1.25,-1.435 -1.25,1.435 ; -1.2,-1.435 -1.2,1.435 ; -1.15,-1.435 -1.15,1.435 ; -1.1,-1.435 -1.1,1.435 ; -1.05,-1.435 -1.05,1.435 ; -1,-1.435 -1,1.435 ; -0.95,-1.435 -0.95,1.435 ; -0.9,-1.435 -0.9,1.435 ; -0.85,-1.435 -0.85,1.435 ; -0.8,-1.435 -0.8,1.435 ; -0.75,-1.435 -0.75,1.435 ; -0.7,-1.435 -0.7,1.435 ; -0.65,-1.435 -0.65,1.435 ; -0.6,-1.435 -0.6,1.435 ; -0.55,-1.435 -0.55,1.435 ; -0.5,-1.435 -0.5,1.435 ; -0.45,-1.435 -0.45,1.435 ; -0.4,-1.435 -0.4,1.435 ; -0.35,-1.435 -0.35,1.435 ; -0.3,-1.435 -0.3,1.435 ; -0.25,-1.435 -0.25,1.435 ; -0.2,-1.435 -0.2,1.435 ; -0.15,-1.435 -0.15,1.435 ; -0.1,-1.435 -0.1,1.435 ; -0.05,-1.435 -0.05,1.435 ; 0,-1.435 0,1.435 ; 0.05,-1.435 0.05,1.435 ; 0.1,-1.435 0.1,1.435 ; 0.15,-1.435 0.15,1.435 ; 0.2,-1.435 0.2,1.435 ; 0.25,-1.435 0.25,1.435 ; 0.3,-1.435 0.3,1.435 ; 0.35,-1.435 0.35,1.435 ; 0.4,-1.435 0.4,1.435 ; 0.45,-1.435 0.45,1.435 ; 0.5,-1.435 0.5,1.435 ; 0.55,-1.435 0.55,1.435 ; 0.6,-1.435 0.6,1.435 ; 0.65,-1.435 0.65,1.435 ; 0.7,-1.435 0.7,1.435 ; 0.75,-1.435 0.75,1.435 ; 0.8,-1.435 0.8,1.435 ; 0.85,-1.435 0.85,1.435 ; 0.9,-1.435 0.9,1.435 ; 0.95,-1.435 0.95,1.435 ; 1,-1.435 1,1.435 ; 1.05,-1.435 1.05,1.435 ; 1.1,-1.435 1.1,1.435 ; 1.15,-1.435 1.15,1.435 ; 1.2,-1.435 1.2,1.435 ; 1.25,-1.435 1.25,1.435 ; 1.3,-1.435 1.3,1.435 ; 1.35,-1.435 1.35,1.435 ; 1.4,-1.435 1.4,1.435 ; 1.45,-1.435 1.45,1.435 ; 1.5,-1.435 1.5,1.435 ; 1.55,-1.435 1.55,1.435 ; 1.6,-1.435 1.6,1.435 ; 1.65,-1.435 1.65,1.435 ; 1.7,-1.435 1.7,1.435 ; 1.75,-1.435 1.75,1.435 ; 1.8,-1.435 1.8,1.435 ; 1.85,-1.435 1.85,1.435 ; 1.9,-1.435 1.9,1.435 ; 1.95,-1.435 1.95,1.435 ; 2,-1.435 2,1.435 ; 2.05,-1.435 2.05,1.435 ; 2.1,-1.435 2.1,1.435 ; 2.15,-1.435 2.15,1.435 ; 2.2,-1.435 2.2,1.435 ; 2.25,-1.435 2.25,1.435 ; 2.3,-1.435 2.3,1.435 ; 2.35,-1.435 2.35,-0.835 ; 2.35,0.835 2.35,1.435 ; -3.175,-1.59 -2.415,-1.59 ccw(c-16.415,0) -2.415,1.59 -3.175,1.59 -3.175,-1.59 ; 2.415,-1.59 cw(c16.415,0) 2.415,1.59 3.175,1.59 3.175,-1.59 2.415,-1.59
  text ".Designator" at -3.378,2.161 h1.5
3D body "R2512_BLACK_10R.x_t": height 0.55, standoff 0, extent -3.175,-1.55 3.175,1.55